# Altium schematic symbol library IPB017N10N5LF.SchLib: 1 symbol
Pins are listed as number, name and electrical type; pins without a type are passive.

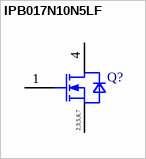
[diagram p0: symbol IPB017N10N5LF]

## IPB017N10N5LF
designator Q?  (value not drawn)
OptiMOS 5 Linear FET,100V; Manufacturer: Infineon Technologies; ManufacturerPartNumber: IPB017N10N5LF; PackageReference: PG-TO263-7-3
footprint TO127P1524X457-8_7N-V
footprint TO127P1524X457-8_7N
pins: 1 GATE, 2 SOURCE, 3 SOURCE, 4 DRAIN, 5 SOURCE, 6 SOURCE, 7 SOURCE
text: 2,3,5,6,7